# EAGLE library part TRACKER-SOM (library Particle-Devices)
Particle Tracker SoM Tracker SoM is a powerful, configurable, and extensible IoT System-on-Module (SoM) that builds on Particle's Tracking Services foundation and provides a powerful MCU, GNSS, and advanced peripherals in a compact form factor. More information: https://docs.particle.io/datasheets/asset-tracking/tracker-som-datasheet/
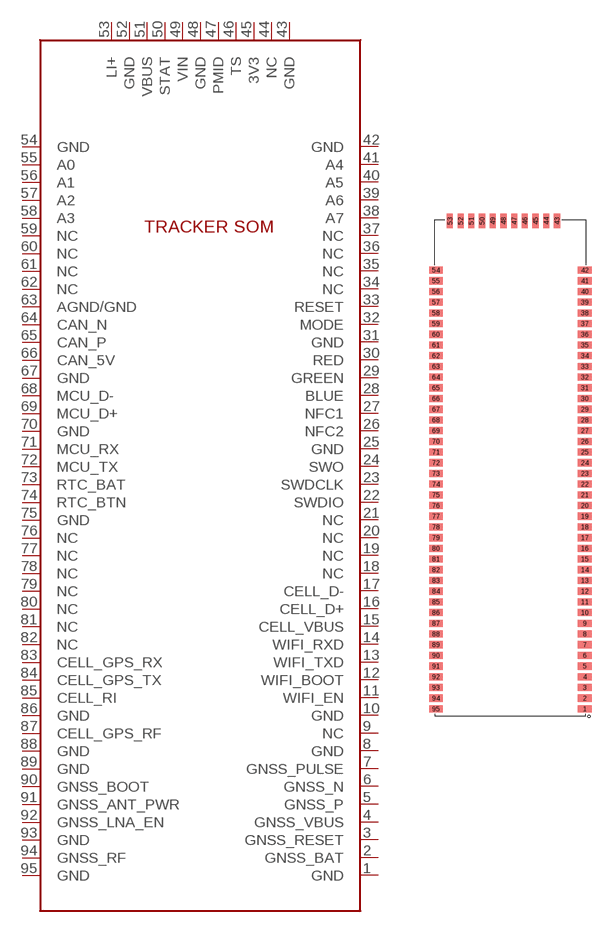
[diagram p11: symbol with the pads of TRACKER-SOM; footprint TRACKER-SOM]

Designator prefix U

## TRACKER-SOM  [TRACKER-SOM]
1  GND
2  GNSS_BAT
3  GNSS_RESET
4  GNSS_VBUS
5  GNSS_P
6  GNSS_N
7  GNSS_PULSE
8  GND
9  NC
10  GND
11  WIFI_EN
12  WIFI_BOOT
13  WIFI_TXD
14  WIFI_RXD
15  CELL_VBUS
16  CELL_D+
17  CELL_D-
18  NC
19  NC
20  NC
21  NC
22  SWDIO
23  SWDCLK
24  SWO
25  GND
26  NFC2
27  NFC1
28  BLUE
29  GREEN
30  RED
31  GND
32  MODE
33  RESET
34  NC
35  NC
36  NC
37  NC
38  A7
39  A6
40  A5
41  A4
42  GND
43  GND
44  NC
45  3V3
46  TS
47  PMID
48  GND
49  VIN
50  STAT
51  VBUS
52  GND
53  LI+
54  GND
55  A0
56  A1
57  A2
58  A3
59  NC
60  NC
61  NC
62  NC
63  AGND/GND
64  CAN_N
65  CAN_P
66  CAN_5V
67  GND
68  MCU_D-
69  MCU_D+
70  GND
71  MCU_RX
72  MCU_TX
73  RTC_BAT
74  RTC_BTN
75  GND
76  NC
77  NC
78  NC
79  NC
80  NC
81  NC
82  NC
83  CELL_GPS_RX
84  CELL_GPS_TX
85  CELL_RI
86  GND
87  CELL_GPS_RF
88  GND
89  GND
90  GNSS_BOOT
91  GNSS_ANT_PWR
92  GNSS_LNA_EN
93  GND
94  GNSS_RF
95  GND

## Footprint TRACKER-SOM (pad centres in mm)
smd 2.8 x 1.35: 1 27.9,-91.3; 2 27.9,-89.3; 3 27.9,-87.3; 4 27.9,-85.3; 5 27.9,-83.3; 6 27.9,-81.3; 7 27.9,-79.3; 8 27.9,-77.3; 9 27.9,-75.3; 10 27.9,-73.3; 11 27.9,-71.3; 12 27.9,-69.3; 13 27.9,-67.3; 14 27.9,-65.3; 15 27.9,-63.3; 16 27.9,-61.3; 17 27.9,-59.3; 18 27.9,-57.3; 19 27.9,-55.3; 20 27.9,-53.3; 21 27.9,-51.3; 22 27.9,-49.3; 23 27.9,-47.3; 24 27.9,-45.3; 25 27.9,-43.3; 26 27.9,-41.3; 27 27.9,-39.3; 28 27.9,-37.3; 29 27.9,-35.3; 30 27.9,-33.3; 31 27.9,-31.3; 32 27.9,-29.3; 33 27.9,-27.3; 34 27.9,-25.3; 35 27.9,-23.3; 36 27.9,-21.3; 37 27.9,-19.3; 38 27.9,-17.3; 39 27.9,-15.3; 40 27.9,-13.3; 41 27.9,-11.3; 42 27.9,-9.3; 54 0.1,-9.3; 55 0.1,-11.3; 56 0.1,-13.3; 57 0.1,-15.3; 58 0.1,-17.3; 59 0.1,-19.3; 60 0.1,-21.3; 61 0.1,-23.3; 62 0.1,-25.3; 63 0.1,-27.3; 64 0.1,-29.3; 65 0.1,-31.3; 66 0.1,-33.3; 67 0.1,-35.3; 68 0.1,-37.3; 69 0.1,-39.3; 70 0.1,-41.3; 71 0.1,-43.3; 72 0.1,-45.3; 73 0.1,-47.3; 74 0.1,-49.3; 75 0.1,-51.3; 76 0.1,-53.3; 77 0.1,-55.3; 78 0.1,-57.3; 79 0.1,-59.3; 80 0.1,-61.3; 81 0.1,-63.3; 82 0.1,-65.3; 83 0.1,-67.3; 84 0.1,-69.3; 85 0.1,-71.3; 86 0.1,-73.3; 87 0.1,-75.3; 88 0.1,-77.3; 89 0.1,-79.3; 90 0.1,-81.3; 91 0.1,-83.3; 92 0.1,-85.3; 93 0.1,-87.3; 94 0.1,-89.3; 95 0.1,-91.3
smd 1.35 x 2.8: 43 22.7,-0.1; 44 20.7,-0.1; 45 18.7,-0.1; 46 16.7,-0.1; 47 14.7,-0.1; 48 12.7,-0.1; 49 10.7,-0.1; 50 8.7,-0.1; 51 6.7,-0.1; 52 4.7,-0.1; 53 2.7,-0.1